# Altium schematic symbol library Transformators_imp.SchLib: 2 symbols
Pins are listed as number, name and electrical type; pins without a type are passive.

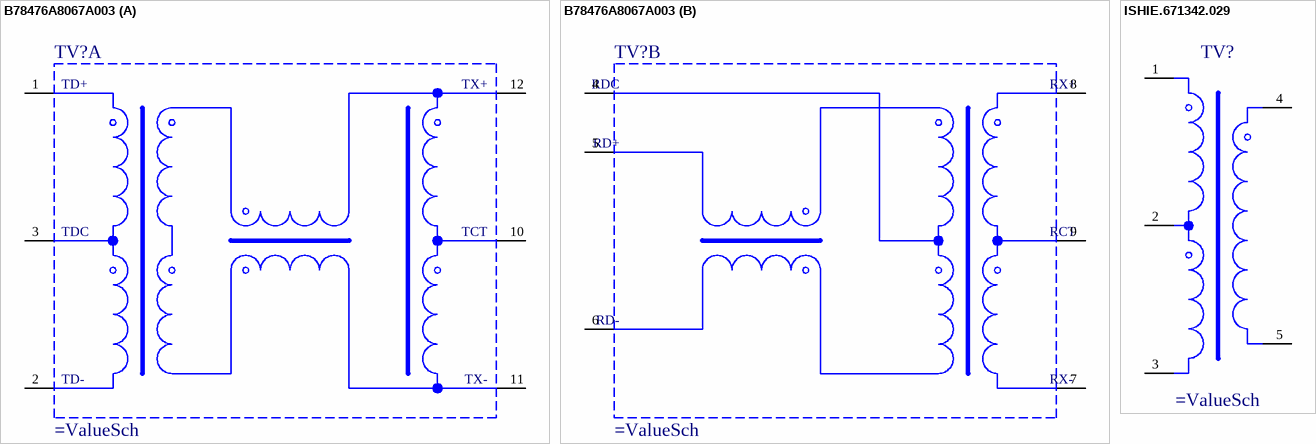
[diagram p0: symbols B78476A8067A003 to ISHIE.671342.029]

## B78476A8067A003
designator TV?
LAN 10/100 Base-T
part A pins: 1 TD+, 2 TD-, 3 TDC, 10 TCT, 11 TX+, 12 TX+
part B pins: 4 RDC, 5 RD+, 6 RD-, 7 RX-, 8 RX+, 9 RCT
1 alternate drawing of the same symbol
part A text: TX-

## ISHIE.671342.029
designator TV?
pins: 1, 2, 3, 4, 5